# EAGLE library part RT7259 (library Richtek)
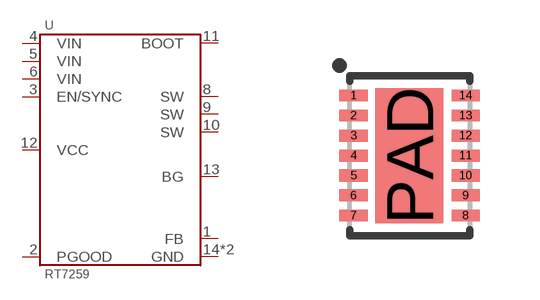
[diagram p0: symbol with the pads of WDFN-14-4X3; footprint WDFN-14-4X3]

Designator prefix U

## RT7259GQW  [WDFN-14-4X3]
1  FB
2  PGOOD
3  EN/SYNC
4  VIN
5  VIN
6  VIN
8  SW
9  SW
10  SW
11  BOOT
12  VCC
13  BG
14  GND
PAD  GND

## Footprint WDFN-14-4X3 (pad centres in mm)
smd 0.7 x 0.3: 1 -1.4,1.5; 2 -1.4,1; 3 -1.4,0.5; 4 -1.4,0; 5 -1.4,-0.5; 6 -1.4,-1; 7 -1.4,-1.5; 8 1.4,-1.5; 9 1.4,-1; 10 1.4,-0.5; 11 1.4,0; 12 1.4,0.5; 13 1.4,1; 14 1.4,1.5
smd 1.7 x 3.375: PAD 0,0